# EAGLE library part PICO7 (library Highwind)
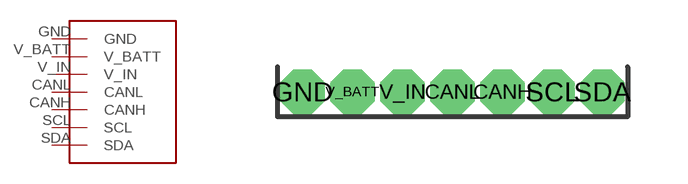
[diagram p2: symbol with the pads of PICO7; footprint PICO7]

Designator prefix -

## PICO7  [PICO7]
CANH  CANH  pwr
CANL  CANL  pwr
GND  GND  pwr
SCL  SCL  pwr
SDA  SDA  pwr
V_BATT  V_BATT  pwr
V_IN  V_IN  pwr

## Footprint PICO7 (pad centres in mm)
drill 0.6 pad 0.813 octagon: CANH 1.25,0; CANL 0,0; GND -3.75,0; SCL 2.5,0; SDA 3.75,0; V_BATT -2.5,0; V_IN -1.25,0